# EAGLE library part DIT4192_SW (library texas)
192kHz Digital Audio Transmitter
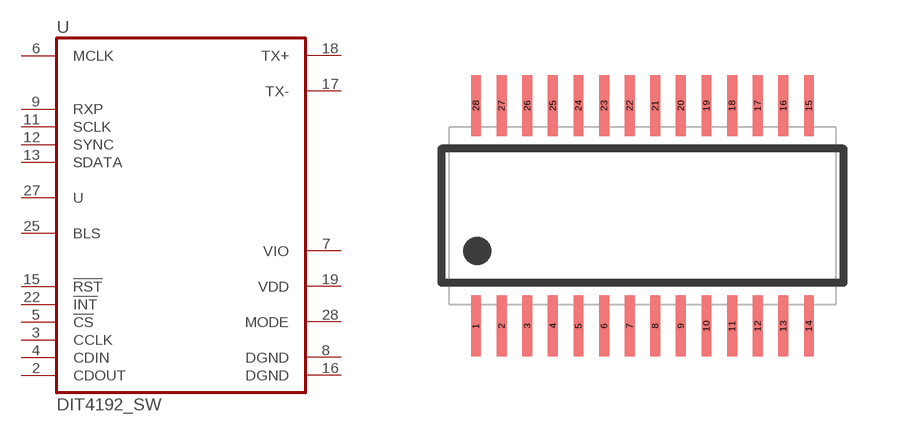
[diagram p100: symbol with the pads of TSSOP28; footprint TSSOP28]

Designator prefix U

## DIT4192_SW  [TSSOP28]
2  CDOUT  oc
3  CCLK  in
4  CDIN  in
5  !CS!  in
6  MCLK  in
7  VIO  pwr
8  DGND  pas
9  RXP  in
11  SCLK
12  SYNC
13  SDATA  in
15  !RST!  in
16  DGND  pwr
17  TX-  out
18  TX+  out
19  VDD  pwr
22  !INT!  in
25  BLS
27  U  in
28  MODE

## Footprint TSSOP28 (pad centres in mm)
Thin Shrink Small Outline Plastic 28 PW (R-PDSO-G28) body 9.8 x 4.5 mm
smd 0.25 x 1.55: 1 -4.225,-2.8; 2 -3.575,-2.8; 3 -2.925,-2.8; 4 -2.275,-2.8; 5 -1.625,-2.8; 6 -0.975,-2.8; 7 -0.325,-2.8; 8 0.325,-2.8; 9 0.975,-2.8; 10 1.625,-2.8; 11 2.275,-2.8; 12 2.925,-2.8; 13 3.575,-2.8; 14 4.225,-2.8; 15 4.225,2.8; 16 3.575,2.8; 17 2.925,2.8; 18 2.275,2.8; 19 1.625,2.8; 20 0.975,2.8; 21 0.325,2.8; 22 -0.325,2.8; 23 -0.975,2.8; 24 -1.625,2.8; 25 -2.275,2.8; 26 -2.925,2.8; 27 -3.575,2.8; 28 -4.225,2.8